# Altium schematic symbol library OS102011MA1QN1.SchLib: 1 symbol
Pins are listed as number, name and electrical type; pins without a type are passive.

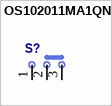
[diagram p0: symbol OS102011MA1QN1]

## OS102011MA1QN1
designator S?  (value not drawn)
pins: 1, 2, 3